# EAGLE library part TDA7294* (library Audio-Power-amplifier)
100V - 100W DMOS Audio Amplifier with Mute/Standby
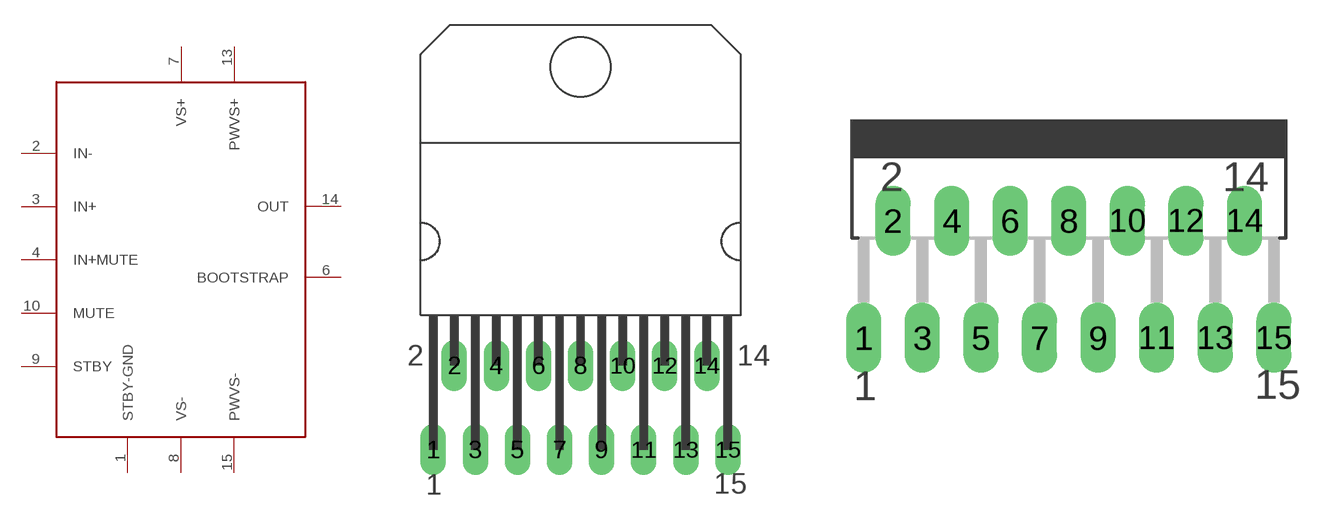
[diagram p13: symbol with the pads of MULTIWATT15H; footprints MULTIWATT15H, MULTIWATT15V]

Designator prefix IC

## TDA7294HS  [MULTIWATT15H]
1  STBY-GND  pwr
2  IN-  in
3  IN+  in
4  IN+MUTE  pwr
6  BOOTSTRAP  pas
7  VS+  pwr
8  VS-  pwr
9  STBY  in
10  MUTE  in
13  PWVS+  pwr
14  OUT  out
15  PWVS-  pwr

## TDA7294V  [MULTIWATT15V]
Pads as for MULTIWATT15H

## Footprint MULTIWATT15H (pad centres in mm)
Multiwatt 15-pin horizontal package
drill 1.016 long: 1 -8.89,-5.08; 2 -7.62,0; 3 -6.35,-5.08; 4 -5.08,0; 5 -3.81,-5.08; 6 -2.54,0; 7 -1.27,-5.08; 8 0,0; 9 1.27,-5.08; 10 2.54,0; 11 3.81,-5.08; 12 5.08,0; 13 6.35,-5.08; 14 7.62,0; 15 8.89,-5.08

## Footprint MULTIWATT15V (pad centres in mm)
Multiwatt 15-pin vertical package
drill 1.016 long: 1 -8.89,-7.62; 2 -7.62,-2.54; 3 -6.35,-7.62; 4 -5.08,-2.54; 5 -3.81,-7.62; 6 -2.54,-2.54; 7 -1.27,-7.62; 8 0,-2.54; 9 1.27,-7.62; 10 2.54,-2.54; 11 3.81,-7.62; 12 5.08,-2.54; 13 6.35,-7.62; 14 7.62,-2.54; 15 8.89,-7.62